# EAGLE library part ESP09 (library ESP8266)
ESP8266 Wifi module 09
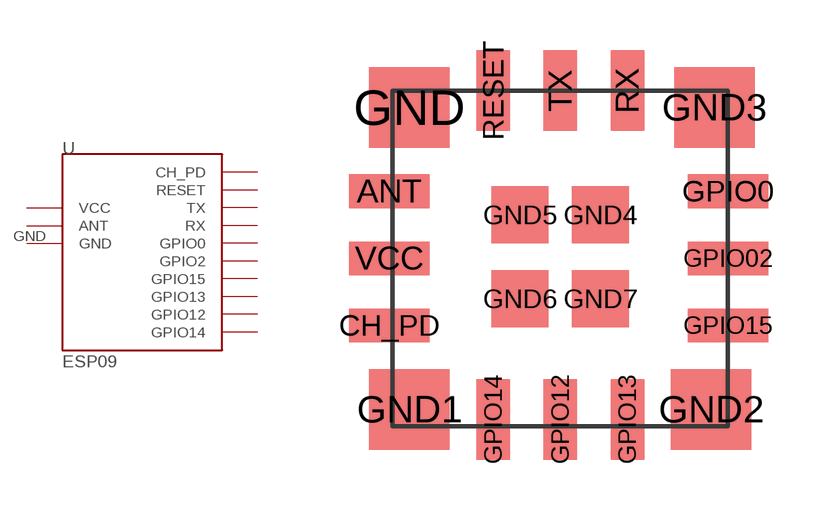
[diagram p6: symbol with the pads of ESP09; footprint ESP09]

Designator prefix -

## ESP09  [ESP09]
ANT  ANT
CH_PD  CH_PD
GND  GND
GND1  GND1
GND2  GND2
GND3  GND3
GND4  GND4
GND5  GND5
GND6  GND6
GND7  GND7
GPIO0  GPIO0
GPIO02  GPIO2
GPIO12  GPIO12
GPIO13  GPIO13
GPIO14  GPIO14
GPIO15  GPIO15
RESET  RESET
RX  RX
TX  TX
VCC  VCC

## Footprint ESP09 (pad centres in mm)
ESP8266 Module 09
smd 2.4 x 1: ANT -5.1,2; CH_PD -5.1,-2; GPIO0 5,2; GPIO02 5,0; GPIO15 5,-2; VCC -5.1,0
smd 2.4 x 2.4: GND -4.5,4.5; GND1 -4.5,-4.5; GND2 4.5,-4.5; GND3 4.6,4.5
smd 1.7 x 1.7: GND4 1.2,1.3; GND5 -1.2,1.3; GND6 -1.2,-1.2; GND7 1.2,-1.2
smd 1 x 2.4: GPIO12 0,-4.8; GPIO13 2,-4.8; GPIO14 -2,-4.8; RESET -2,5; RX 2,5; TX 0,5